# EAGLE library part RF6555 (library KW2)
RF Front End (PA / LNA)
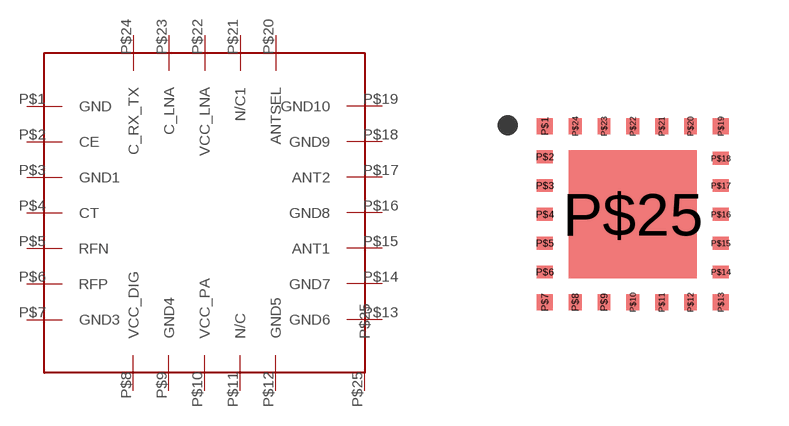
[diagram p2: symbol with the pads of RF6555; footprint RF6555]

Designator prefix -

## RF6555  [RF6555]
P$1  GND
P$2  CE
P$3  GND1
P$4  CT
P$5  RFN
P$6  RFP
P$7  GND3
P$8  VCC_DIG
P$9  GND4
P$10  VCC_PA
P$11  N/C
P$12  GND5
P$13  GND6
P$14  GND7
P$15  ANT1
P$16  GND8
P$17  ANT2
P$18  GND9
P$19  GND10
P$20  ANTSEL
P$21  N/C1
P$22  VCC_LNA
P$23  C_LNA
P$24  C_RX_TX
P$25  P$25

## Footprint RF6555 (pad centres in mm)
smd 0.4 x 0.4: P$1 -2.2,2.2; P$7 -2.2,-2.2; P$13 2.2,-2.2; P$19 2.2,2.2
smd 0.4 x 0.32: P$2 -2.2,1.44; P$3 -2.2,0.72; P$4 -2.2,0; P$5 -2.2,-0.72; P$6 -2.2,-1.44; P$14 2.2,-1.44; P$15 2.2,-0.72; P$16 2.2,0; P$17 2.2,0.72; P$18 2.2,1.4
smd 0.32 x 0.4: P$8 -1.44,-2.2; P$9 -0.72,-2.2; P$10 0,-2.2; P$11 0.72,-2.2; P$12 1.44,-2.2; P$20 1.44,2.2; P$21 0.72,2.2; P$22 0,2.2; P$23 -0.72,2.2; P$24 -1.44,2.2
smd 3.2 x 3.2: P$25 0,0